# Altium footprint library SPEAKER_MESH.PcbLib: 1 footprints
Each footprint in its own frame and in the unit in brackets; x right, y up, seen from the top. Pads: shape width x height; smd on the part's side, far side on the other; paste and mask are expansions set on the pad; w line width, h text height; cw(c..) or ccw(c..) is an arc to the next point about the centre after c.
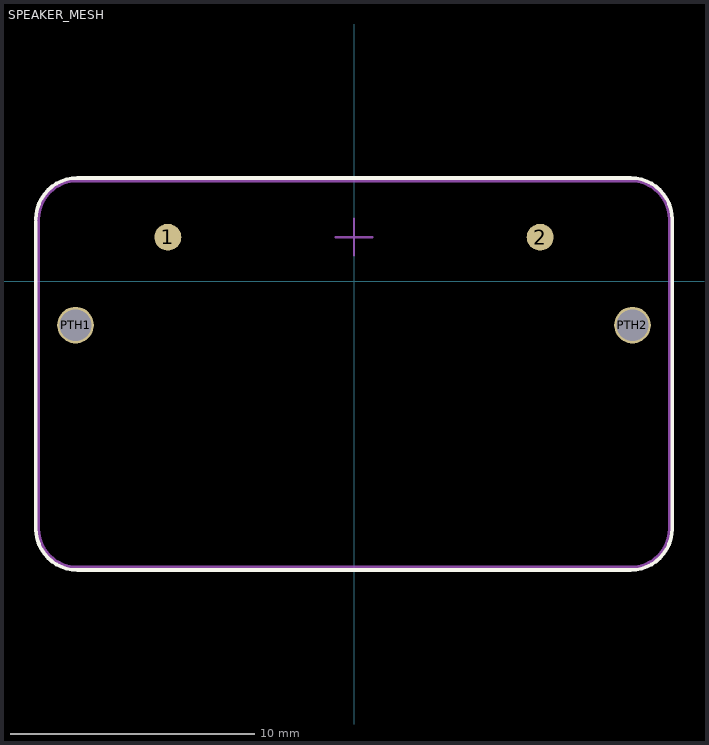
[diagram p0: the footprint, top view; thin cyan lines are the x and y axes]

## SPEAKER_MESH [mm]
pads (4):
  round 1.1 smd: 1(-7.62,1.8) 2(7.62,1.8)
  round 1.5 hole 1.3 unplated: PTH1(-11.4,-1.8) PTH2(11.4,-1.8)
Top Overlay:
  lines w0.152: -13.025,-10.225 -13.025,2.425 ; -13.025,-10.125 ccw(c-11.325,-10.125) -11.325,-11.825 11.325,-11.825 ccw(c11.325,-10.125) 13.025,-10.125 13.025,2.525 ccw(c11.325,2.525) 11.325,4.225 -11.325,4.225 ccw(c-11.325,2.525) -13.025,2.525
Mechanical 13:
  lines w0.152: -12.925,-10.125 ccw(c-11.325,-10.125) -11.325,-11.725 11.325,-11.725 ccw(c11.325,-10.125) 12.925,-10.125 12.925,2.525 ccw(c11.325,2.525) 11.325,4.125 -11.325,4.125 ccw(c-11.325,2.525) -12.925,2.525 -12.925,-10.125 ; -12.925,-10.125 ccw(c-12.925,-10.125) -12.925,-10.125
Mechanical 15:
  lines w0.1: -0.75,1.8 0.75,1.8 ; 0,1.05 0,2.55
  lines w0.152: -12.925,-10.125 ccw(c-11.325,-10.125) -11.325,-11.725 11.325,-11.725 ccw(c11.325,-10.125) 12.925,-10.125 12.925,2.525 ccw(c11.325,2.525) 11.325,4.125 -11.325,4.125 ccw(c-11.325,2.525) -12.925,2.525 -12.925,-10.125 ; -12.925,-10.125 ccw(c-12.925,-10.125) -12.925,-10.125
3D body "Speaker.stp": height 6.2, standoff -1.99, extent -13,-11.8 13,4.2